# EAGLE library part CAY16-1002F4LF (library CAY16-1002F4LF)
Resistor Arrays 10K 1% Convex 4 resist. Bourns CAY16 Series 10k +/-1% Isolated SMT Resistor Array, 4 Resistors, 0.25W total 1206 Package Convex Source: Datasheet <http://uk.rs-online.com/web/p/products/7408767P>
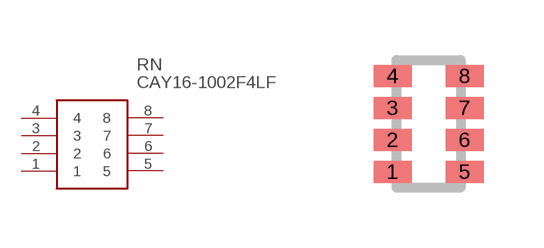
[diagram p0: symbol with the pads of CAY-16-F4; footprint CAY-16-F4]

Designator prefix RN

## CAY16-1002F4LF (Allied_Number: 70276325; Description: Resistor Arrays 10K 1% Convex 4 resist. Bourns CAY16 Series 10k +/-1% Isolated SMT Resistor Array, 4 Resistors, 0.25W total 1206 Package Convex; Height: mm; Manufacturer_Name: Bourns; Manufacturer_Part_Number: CAY16-1002F4LF; RS_Part_Number: 7408767P; RS_Price-Stock: http://uk.rs-online.com/web/p/products/7408767P)  [CAY-16-F4]
1  1
2  2
3  3
4  4
5  5
6  6
7  7
8  8

## Footprint CAY-16-F4 (pad centres in mm)
CAY-16-f4
smd 0.95 x 0.55: 1 -0.9,-1.2; 2 -0.9,-0.4; 3 -0.9,0.4; 4 -0.9,1.2; 5 0.9,-1.2; 6 0.9,-0.4; 7 0.9,0.4; 8 0.9,1.2